# Altium footprint library IC_Analog_Devices_AD9910BSVZ_eec_IPC_A.PcbLib: 1 footprints
Each footprint in its own frame and in the unit in brackets; x right, y up, seen from the top. Pads: shape width x height; smd on the part's side, far side on the other; paste and mask are expansions set on the pad; w line width, h text height; cw(c..) or ccw(c..) is an arc to the next point about the centre after c.
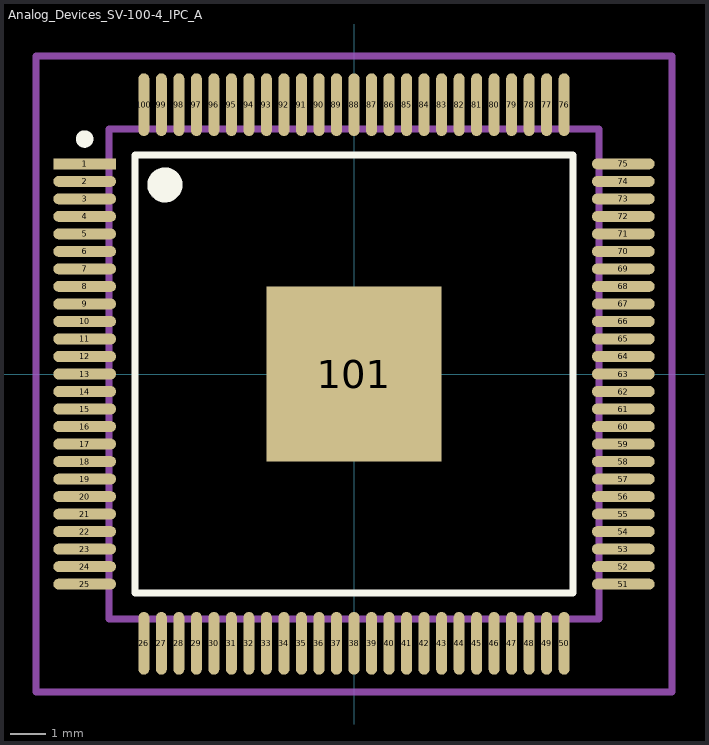
[diagram p0: the footprint, top view; thin cyan lines are the x and y axes]

## Analog_Devices_SV-100-4_IPC_A [mm]
pads (101):
  rect 1.788x0.312 smd paste+0 mask+0: 1(-7.691,6)
  rrect100% 1.788x0.312 smd paste+0 mask+0: 2(-7.691,5.5) 3(-7.691,5) 4(-7.691,4.5) 5(-7.691,4) 6(-7.691,3.5) 7(-7.691,3) 8(-7.691,2.5) 9(-7.691,2) 10(-7.691,1.5) 11(-7.691,1) 12(-7.691,0.5) 13(-7.691,0) 14(-7.691,-0.5) 15(-7.691,-1) 16(-7.691,-1.5) 17(-7.691,-2) 18(-7.691,-2.5) 19(-7.691,-3) 20(-7.691,-3.5) 21(-7.691,-4) 22(-7.691,-4.5) 23(-7.691,-5) 24(-7.691,-5.5) 25(-7.691,-6) 51(7.691,-6) 52(7.691,-5.5) 53(7.691,-5) 54(7.691,-4.5) 55(7.691,-4) 56(7.691,-3.5) 57(7.691,-3) 58(7.691,-2.5) 59(7.691,-2) 60(7.691,-1.5) 61(7.691,-1) 62(7.691,-0.5) 63(7.691,0) 64(7.691,0.5) 65(7.691,1) 66(7.691,1.5) 67(7.691,2) 68(7.691,2.5) 69(7.691,3) 70(7.691,3.5) 71(7.691,4) 72(7.691,4.5) 73(7.691,5) 74(7.691,5.5) 75(7.691,6)
  rrect100% 0.312x1.788 smd paste+0 mask+0: 26(-6,-7.691) 27(-5.5,-7.691) 28(-5,-7.691) 29(-4.5,-7.691) 30(-4,-7.691) 31(-3.5,-7.691) 32(-3,-7.691) 33(-2.5,-7.691) 34(-2,-7.691) 35(-1.5,-7.691) 36(-1,-7.691) 37(-0.5,-7.691) 38(0,-7.691) 39(0.5,-7.691) 40(1,-7.691) 41(1.5,-7.691) 42(2,-7.691) 43(2.5,-7.691) 44(3,-7.691) 45(3.5,-7.691) 46(4,-7.691) 47(4.5,-7.691) 48(5,-7.691) 49(5.5,-7.691) 50(6,-7.691) 76(6,7.691) 77(5.5,7.691) 78(5,7.691) 79(4.5,7.691) 80(4,7.691) 81(3.5,7.691) 82(3,7.691) 83(2.5,7.691) 84(2,7.691) 85(1.5,7.691) 86(1,7.691) 87(0.5,7.691) 88(0,7.691) 89(-0.5,7.691) 90(-1,7.691) 91(-1.5,7.691) 92(-2,7.691) 93(-2.5,7.691) 94(-3,7.691) 95(-3.5,7.691) 96(-4,7.691) 97(-4.5,7.691) 98(-5,7.691) 99(-5.5,7.691) 100(-6,7.691)
  rect 5x5 smd paste-1000 mask+0: 101(0,0)
Top Overlay:
  circle w0.25: c-7.691,6.71 r0.125
  circle w0.5: c-5.4,5.4 r0.25
  lines w0.2: -6.25,-6.25 6.25,-6.25 6.25,6.25 -6.25,6.25 -6.25,-6.25
Top Paste:
  rectangle: -1.887,0.306 -0.306,1.887
  rectangle: 0.306,0.306 1.887,1.887
  rectangle: -1.887,-1.887 -0.306,-0.306
  rectangle: 0.306,-1.887 1.887,-0.306
Mechanical 10:
  lines w0.2: -9.085,-9.085 9.085,-9.085 9.085,9.085 -9.085,9.085 -9.085,-9.085
  text ".Designator" at 0,0.188 h1
Mechanical 12:
  lines w0.2: -7,-7 7,-7 7,7 -7,7 -7,-7
Mechanical 15:
  lines w0.1: -0.5,0 0.5,0 ; 0,-0.5 0,0.5
  lines w0.2: -9.085,-9.085 9.085,-9.085 9.085,9.085 -9.085,9.085 -9.085,-9.085